# Altium footprint library PcbLib1.PcbLib: 32 footprints (part 1 of 2)
Each footprint in its own frame and in the unit in brackets; x right, y up, seen from the top. Pads: shape width x height; smd on the part's side, far side on the other; paste and mask are expansions set on the pad; w line width, h text height; cw(c..) or ccw(c..) is an arc to the next point about the centre after c.
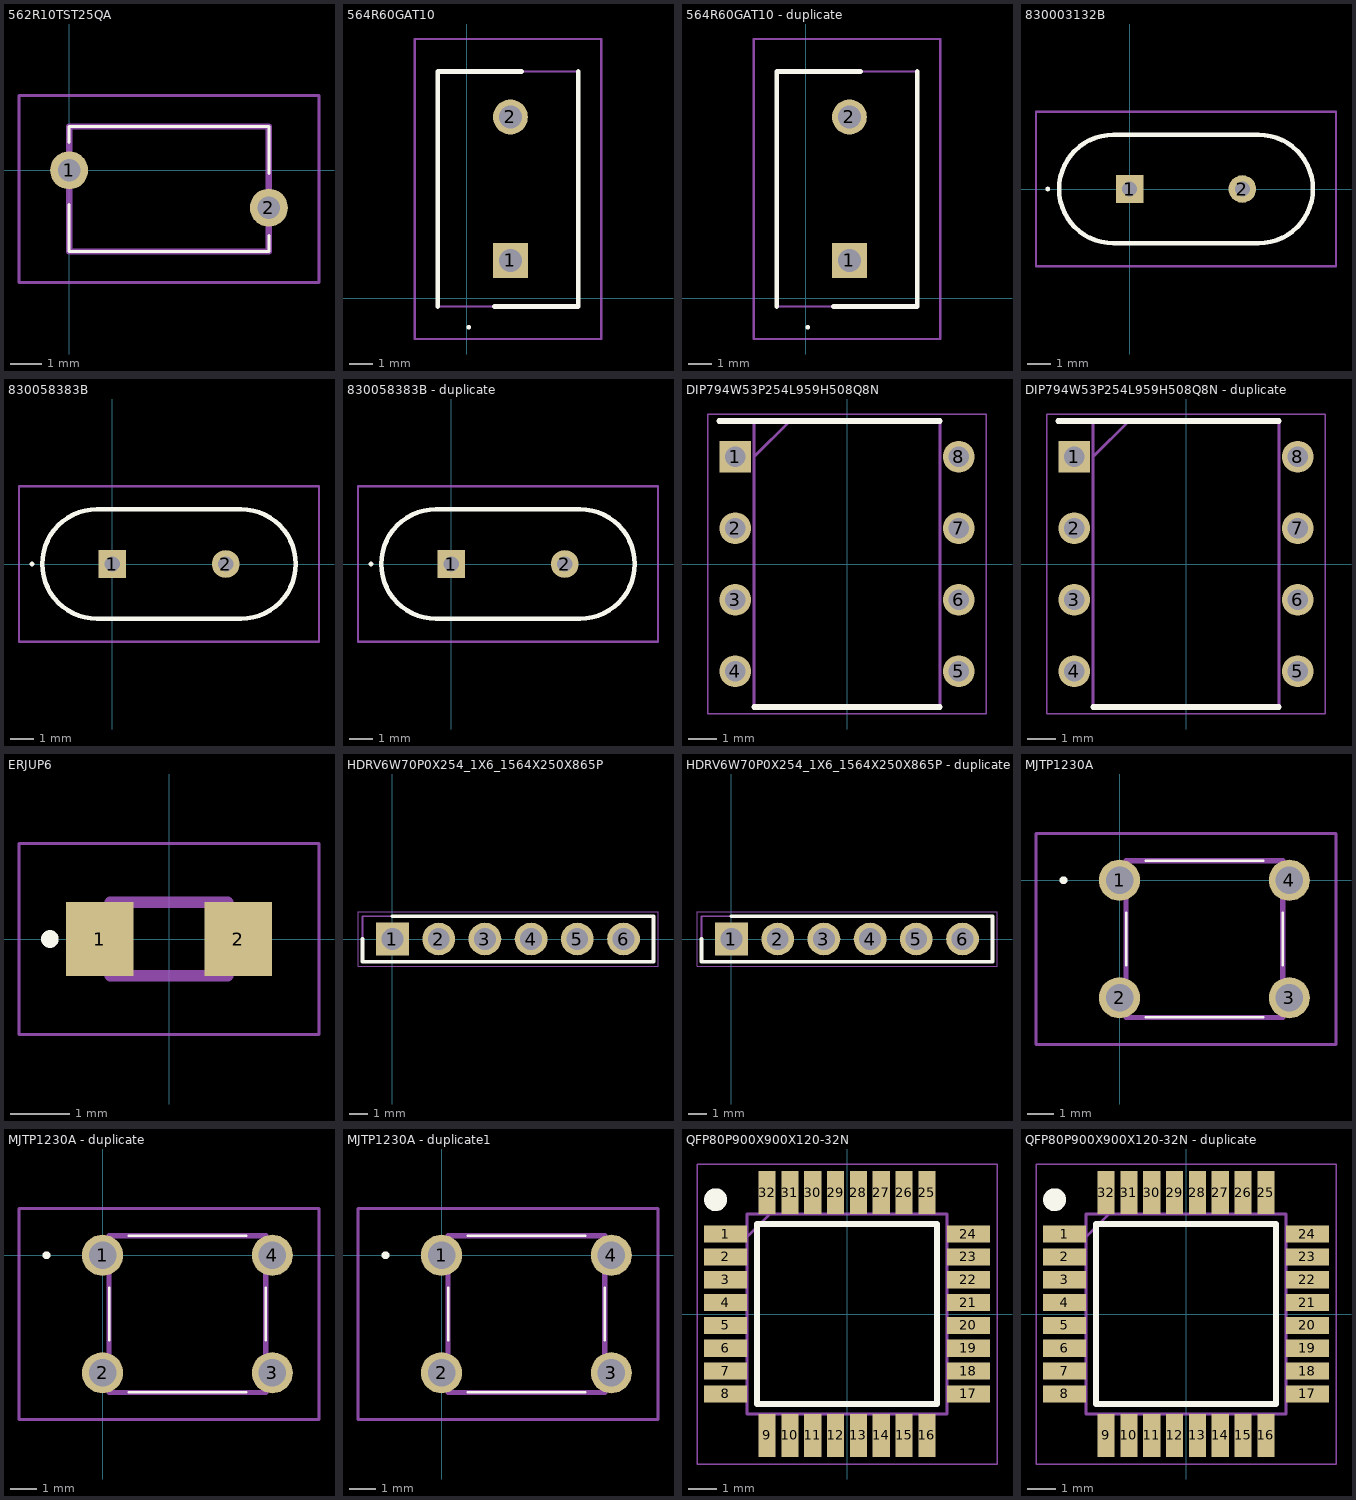
[diagram p0: the footprints below, top view; thin cyan lines are the x and y axes]

## 562R10TST25QA [mm]
pads (2):
  round 1.217 hole 0.71: 1(0,0) 2(6.4,-1.2)
Top Overlay:
  lines w0.1: 0,-1.1 0,-2.6 6.4,-2.6 6.4,-2.1 ; 0,0.9 0,1.4 6.4,1.4 6.4,-0.1
Mechanical 13:
  lines w0.2: 0,-2.6 0,1.4 6.4,1.4 6.4,-2.6 0,-2.6
Mechanical 15:
  lines w0.1: -1.609,-3.6 -1.609,2.4 8.009,2.4 8.009,-3.6 -1.609,-3.6
3D body "562R10TST25QA.stp": height 9.67, standoff -5, extent -0.255,-2.6 6.655,1.4

## 564R60GAT10 [mm]
pads (2):
  rect 1.515x1.515 hole 1.01: 1(1.905,1.651)
  round 1.515 hole 1.01: 2(1.905,7.874)
Top Overlay:
  lines w0.1: 0.1,-1.3 cw(c0.1,-1.25) 0.1,-1.2 cw(c0.1,-1.25) 0.1,-1.3
  lines w0.2: -1.25,-0.35 -1.25,9.85 2.4,9.85 ; 1.2,-0.35 4.85,-0.35 4.85,9.85
Mechanical 13:
  lines w0.1: -1.25,-0.35 -1.25,9.85 4.85,9.85 4.85,-0.35 -1.25,-0.35
Mechanical 15:
  lines w0.1: -2.25,-1.758 -2.25,11.258 5.85,11.258 5.85,-1.758 -2.25,-1.758
3D body "564R60GAT10.stp": height 10.3, standoff -5, extent -1.25,-0.402 4.85,9.902

## 564R60GAT10 - duplicate [mm]
pads (2):
  rect 1.515x1.515 hole 1.01: 1(1.905,1.651)
  round 1.515 hole 1.01: 2(1.905,7.874)
Top Overlay:
  lines w0.1: 0.1,-1.3 ccw(c0.1,-1.25) 0.1,-1.2 ccw(c0.1,-1.25) 0.1,-1.3
  lines w0.2: -1.25,-0.35 -1.25,9.85 2.4,9.85 ; 1.2,-0.35 4.85,-0.35 4.85,9.85
Mechanical 13:
  lines w0.1: -1.25,-0.35 4.85,-0.35 4.85,9.85 -1.25,9.85 -1.25,-0.35
Mechanical 15:
  lines w0.1: -2.25,-1.758 5.85,-1.758 5.85,11.258 -2.25,11.258 -2.25,-1.758
3D body "564R60GAT10.stp": height 10.3, standoff -5, extent -1.25,-0.402 4.85,9.902

## 830003132B [mm]
pads (2):
  rect 1.192x1.192 hole 0.65: 1(0,0)
  round 1.192 hole 0.65: 2(4.88,0)
Top Overlay:
  lines w0.1: -3.6,0 cw(c-3.55,0) -3.5,0 cw(c-3.55,0) -3.6,0
  lines w0.2: -0.71,-2.35 cw(c-0.71,0) -0.71,2.35 5.59,2.35 cw(c5.59,0) 5.59,-2.35 -0.71,-2.35
Mechanical 13:
  lines w0.1: -0.71,-2.35 cw(c-0.71,0) -0.71,2.35 5.59,2.35 cw(c5.59,0) 5.59,-2.35 -0.71,-2.35
Mechanical 15:
  lines w0.1: -4.06,-3.35 -4.06,3.35 8.94,3.35 8.94,-3.35 -4.06,-3.35
3D body "830003132B.stp": height 4.2, standoff -5, extent -3.06,-2.35 7.94,2.35

## 830058383B [mm]
pads (2):
  rect 1.192x1.192 hole 0.65: 1(0,0)
  round 1.192 hole 0.65: 2(4.88,0)
Top Overlay:
  lines w0.1: -3.5,0 cw(c-3.45,0) -3.4,0 cw(c-3.45,0) -3.5,0
  lines w0.2: -0.66,-2.35 cw(c-0.66,0) -0.66,2.35 5.54,2.35 cw(c5.54,0) 5.54,-2.35 -0.66,-2.35
Mechanical 13:
  lines w0.1: -0.66,-2.35 cw(c-0.66,0) -0.66,2.35 5.54,2.35 cw(c5.54,0) 5.54,-2.35 -0.66,-2.35
Mechanical 15:
  lines w0.1: -4.01,-3.35 8.89,-3.35 8.89,3.35 -4.01,3.35 -4.01,-3.35
3D body "830058383B.stp": height 4.2, standoff -5, extent -3.01,-2.35 7.89,2.35

## 830058383B - duplicate [mm]
pads (2):
  rect 1.192x1.192 hole 0.65: 1(0,0)
  round 1.192 hole 0.65: 2(4.88,0)
Top Overlay:
  lines w0.1: -3.5,0 cw(c-3.45,0) -3.4,0 cw(c-3.45,0) -3.5,0
  lines w0.2: -0.66,-2.35 cw(c-0.66,0) -0.66,2.35 5.54,2.35 cw(c5.54,0) 5.54,-2.35 -0.66,-2.35
Mechanical 13:
  lines w0.1: -0.66,-2.35 cw(c-0.66,0) -0.66,2.35 5.54,2.35 cw(c5.54,0) 5.54,-2.35 -0.66,-2.35
Mechanical 15:
  lines w0.1: -4.01,-3.35 8.89,-3.35 8.89,3.35 -4.01,3.35 -4.01,-3.35
3D body "830058383B.stp": height 4.2, standoff -5, extent -3.01,-2.35 7.89,2.35

## DIP794W53P254L959H508Q8N [mm]
pads (8):
  rect 1.13x1.13 hole 0.73: 1(-3.97,3.81)
  round 1.13 hole 0.73: 2(-3.97,1.27) 3(-3.97,-1.27) 4(-3.97,-3.81) 5(3.97,-3.81) 6(3.97,-1.27) 7(3.97,1.27) 8(3.97,3.81)
Top Overlay:
  lines w0.2: -4.535,5.08 3.3,5.08 ; -3.3,-5.08 3.3,-5.08
Mechanical 13:
  lines w0.1: -3.3,3.81 -2.03,5.08 ; -3.3,-5.08 -3.3,5.08 3.3,5.08 3.3,-5.08 -3.3,-5.08
Mechanical 15:
  lines w0.05: -4.945,-5.33 -4.945,5.33 4.945,5.33 4.945,-5.33 -4.945,-5.33
3D body "LM358PE4.stp": height 4.21, standoff -3.37, extent -4.102,-4.635 4.102,4.635

## DIP794W53P254L959H508Q8N - duplicate [mm]
pads (8):
  rect 1.13x1.13 hole 0.73: 1(-3.97,3.81)
  round 1.13 hole 0.73: 2(-3.97,1.27) 3(-3.97,-1.27) 4(-3.97,-3.81) 5(3.97,-3.81) 6(3.97,-1.27) 7(3.97,1.27) 8(3.97,3.81)
Top Overlay:
  lines w0.2: -4.535,5.08 3.3,5.08 ; -3.3,-5.08 3.3,-5.08
Mechanical 13:
  lines w0.1: -3.3,3.81 -2.03,5.08 ; -3.3,-5.08 3.3,-5.08 3.3,5.08 -3.3,5.08 -3.3,-5.08
Mechanical 15:
  lines w0.05: -4.945,-5.33 4.945,-5.33 4.945,5.33 -4.945,5.33 -4.945,-5.33
3D body "LM358PE4.stp": height 4.21, standoff -3.37, extent -4.102,-4.635 4.102,4.635

## ERJUP6 [mm]
pads (2):
  rect 1.15x1.25 smd: 1(-1.175,0) 2(1.175,0)
Top Overlay:
  circle w0.2: c-2.025,0 r0.05
Mechanical 13:
  lines w0.2: -1,-0.625 -1,0.625 1,0.625 1,-0.625 -1,-0.625
Mechanical 15:
  lines w0.05: -2.55,-1.625 -2.55,1.625 2.55,1.625 2.55,-1.625 -2.55,-1.625
3D body "ERJ-UP6F5760V.stp": height 0.6, standoff 0, extent -1,-0.625 1,0.625

## HDRV6W70P0X254_1X6_1564X250X865P [mm]
pads (6):
  rect 1.8x1.8 hole 1.2: 1(0,0)
  round 1.8 hole 1.2: 2(2.54,0) 3(5.08,0) 4(7.62,0) 5(10.16,0) 6(12.7,0)
Top Overlay:
  lines w0.2: -1.645,0 -1.645,-1.25 14.345,-1.25 14.345,1.25 0,1.25
Mechanical 13:
  lines w0.1: -1.645,-1.25 -1.645,1.25 14.345,1.25 14.345,-1.25 -1.645,-1.25
Mechanical 15:
  lines w0.05: -1.895,-1.5 -1.895,1.5 14.595,1.5 14.595,-1.5 -1.895,-1.5
3D body "M20-7820646.stp": height 8.65, standoff -3.25, extent -1.47,-1.25 14.17,1.25

## HDRV6W70P0X254_1X6_1564X250X865P - duplicate [mm]
pads (6):
  rect 1.8x1.8 hole 1.2: 1(0,0)
  round 1.8 hole 1.2: 2(2.54,0) 3(5.08,0) 4(7.62,0) 5(10.16,0) 6(12.7,0)
Top Overlay:
  lines w0.2: -1.645,0 -1.645,-1.25 14.345,-1.25 14.345,1.25 0,1.25
Mechanical 13:
  lines w0.1: -1.645,-1.25 -1.645,1.25 14.345,1.25 14.345,-1.25 -1.645,-1.25
Mechanical 15:
  lines w0.05: -1.895,-1.5 -1.895,1.5 14.595,1.5 14.595,-1.5 -1.895,-1.5
3D body "M20-7820646.stp": height 8.65, standoff -3.25, extent -1.47,-1.25 14.17,1.25

## MJTP1230A [mm]
pads (4):
  round 1.575 hole 1.05: 1(0,0) 2(0,-4.5) 3(6.5,-4.5) 4(6.5,0)
Top Overlay:
  lines w0.1: 0.25,-3.25 0.25,-1.25 0.25,-3.25 ; 1,-5.25 5.5,-5.25 1,-5.25 ; 1,0.75 5.5,0.75 1,0.75 ; 6.25,-3.25 6.25,-1.25 6.25,-3.25
  lines w0.2: -2.2,0 ccw(c-2.15,0) -2.1,0 ; -2.2,0 cw(c-2.15,0) -2.1,0 ; -2.2,0 ccw(c-2.15,0) -2.1,0
Mechanical 13:
  lines w0.2: 0.25,-5.25 6.25,-5.25 6.25,0.75 0.25,0.75 0.25,-5.25
Mechanical 15:
  lines w0.1: -3.2,-6.287 8.287,-6.287 8.287,1.788 -3.2,1.788 -3.2,-6.287
3D body "MJTP1230A.stp": height 5.1, standoff -5, extent -0.425,-5.25 6.925,0.75

## MJTP1230A - duplicate [mm]
pads (4):
  round 1.575 hole 1.05: 1(0,0) 2(0,-4.5) 3(6.5,-4.5) 4(6.5,0)
Top Overlay:
  lines w0.1: 0.25,-3.25 0.25,-1.25 0.25,-3.25 ; 1,-5.25 5.5,-5.25 1,-5.25 ; 1,0.75 5.5,0.75 1,0.75 ; 6.25,-3.25 6.25,-1.25 6.25,-3.25
  lines w0.2: -2.2,0 ccw(c-2.15,0) -2.1,0 ; -2.2,0 cw(c-2.15,0) -2.1,0 ; -2.2,0 ccw(c-2.15,0) -2.1,0
Mechanical 13:
  lines w0.2: 0.25,-5.25 6.25,-5.25 6.25,0.75 0.25,0.75 0.25,-5.25
Mechanical 15:
  lines w0.1: -3.2,-6.287 8.287,-6.287 8.287,1.788 -3.2,1.788 -3.2,-6.287
3D body "MJTP1230A.stp": height 5.1, standoff -5, extent -0.425,-5.25 6.925,0.75

## MJTP1230A - duplicate1 [mm]
pads (4):
  round 1.575 hole 1.05: 1(0,0) 2(0,-4.5) 3(6.5,-4.5) 4(6.5,0)
Top Overlay:
  lines w0.1: 0.25,-3.25 0.25,-1.25 0.25,-3.25 ; 1,-5.25 5.5,-5.25 1,-5.25 ; 1,0.75 5.5,0.75 1,0.75 ; 6.25,-3.25 6.25,-1.25 6.25,-3.25
  lines w0.2: -2.2,0 ccw(c-2.15,0) -2.1,0 ; -2.2,0 cw(c-2.15,0) -2.1,0 ; -2.2,0 ccw(c-2.15,0) -2.1,0
Mechanical 13:
  lines w0.2: 0.25,-5.25 6.25,-5.25 6.25,0.75 0.25,0.75 0.25,-5.25
Mechanical 15:
  lines w0.1: -3.2,-6.287 8.287,-6.287 8.287,1.788 -3.2,1.788 -3.2,-6.287
3D body "MJTP1230A.stp": height 5.1, standoff -5, extent -0.425,-5.25 6.925,0.75

## QFP80P900X900X120-32N [mm]
pads (32):
  rect 1.5x0.6 smd: 1(-4.25,2.8) 2(-4.25,2) 3(-4.25,1.2) 4(-4.25,0.4) 5(-4.25,-0.4) 6(-4.25,-1.2) 7(-4.25,-2) 8(-4.25,-2.8) 17(4.25,-2.8) 18(4.25,-2) 19(4.25,-1.2) 20(4.25,-0.4) 21(4.25,0.4) 22(4.25,1.2) 23(4.25,2) 24(4.25,2.8)
  rect 0.6x1.5 smd: 9(-2.8,-4.25) 10(-2,-4.25) 11(-1.2,-4.25) 12(-0.4,-4.25) 13(0.4,-4.25) 14(1.2,-4.25) 15(2,-4.25) 16(2.8,-4.25) 25(2.8,4.25) 26(2,4.25) 27(1.2,4.25) 28(0.4,4.25) 29(-0.4,4.25) 30(-1.2,4.25) 31(-2,4.25) 32(-2.8,4.25)
Top Overlay:
  circle w0.4: c-4.6,4 r0.2
  lines w0.2: -3.15,-3.15 3.15,-3.15 3.15,3.15 -3.15,3.15 -3.15,-3.15
Mechanical 13:
  lines w0.1: -3.5,2.7 -2.7,3.5 ; -3.5,-3.5 3.5,-3.5 3.5,3.5 -3.5,3.5 -3.5,-3.5
Mechanical 15:
  lines w0.05: -5.25,-5.25 5.25,-5.25 5.25,5.25 -5.25,5.25 -5.25,-5.25
3D body "ATMEGA328P-AU.stp": height 1.2, standoff 0, extent -4.5,-4.5 4.5,4.5

## QFP80P900X900X120-32N - duplicate [mm]
pads (32):
  rect 1.5x0.6 smd: 1(-4.25,2.8) 2(-4.25,2) 3(-4.25,1.2) 4(-4.25,0.4) 5(-4.25,-0.4) 6(-4.25,-1.2) 7(-4.25,-2) 8(-4.25,-2.8) 17(4.25,-2.8) 18(4.25,-2) 19(4.25,-1.2) 20(4.25,-0.4) 21(4.25,0.4) 22(4.25,1.2) 23(4.25,2) 24(4.25,2.8)
  rect 0.6x1.5 smd: 9(-2.8,-4.25) 10(-2,-4.25) 11(-1.2,-4.25) 12(-0.4,-4.25) 13(0.4,-4.25) 14(1.2,-4.25) 15(2,-4.25) 16(2.8,-4.25) 25(2.8,4.25) 26(2,4.25) 27(1.2,4.25) 28(0.4,4.25) 29(-0.4,4.25) 30(-1.2,4.25) 31(-2,4.25) 32(-2.8,4.25)
Top Overlay:
  circle w0.4: c-4.6,4 r0.2
  lines w0.2: -3.15,-3.15 -3.15,3.15 3.15,3.15 3.15,-3.15 -3.15,-3.15
Mechanical 13:
  lines w0.1: -3.5,2.7 -2.7,3.5 ; -3.5,-3.5 -3.5,3.5 3.5,3.5 3.5,-3.5 -3.5,-3.5
Mechanical 15:
  lines w0.05: -5.25,-5.25 -5.25,5.25 5.25,5.25 5.25,-5.25 -5.25,-5.25
3D body "ATMEGA328P-AU.stp": height 1.2, standoff 0, extent -4.5,-4.5 4.5,4.5